# EAGLE library part HC-05 (library EYR_Modulos)
Bluetooth HC Module
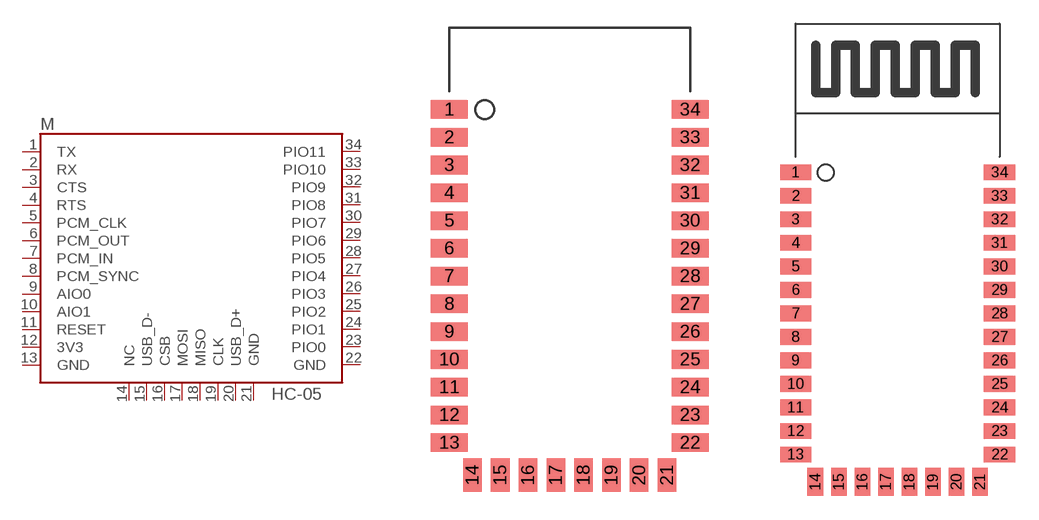
[diagram p2: symbol with the pads of BLUETOOTH_SMDA; footprints BLUETOOTH_SMDA, BLUETOOTH_SMD]

Designator prefix M

## HC-05_NANT  [BLUETOOTH_SMDA]
1  TX
2  RX
3  CTS
4  RTS
5  PCM_CLK
6  PCM_OUT
7  PCM_IN
8  PCM_SYNC
9  AIO0
10  AIO1
11  RESET
12  3V3
13  GND
14  NC
15  USB_D-
16  CSB
17  MOSI
18  MISO
19  CLK
20  USB_D+
21  GND
22  GND
23  PIO0
24  PIO1
25  PIO2
26  PIO3
27  PIO4
28  PIO5
29  PIO6
30  PIO7
31  PIO8
32  PIO9
33  PIO10
34  PIO11

## HC-05_ANT  [BLUETOOTH_SMD]
Pads as for BLUETOOTH_SMDA

## Footprint BLUETOOTH_SMDA (pad centres in mm)
SMD Bluetooth without antenna
smd 2 x 1: 1 -6.35,7.62; 2 -6.35,6.12; 3 -6.35,4.62; 4 -6.35,3.12; 5 -6.35,1.62; 6 -6.35,0.12; 7 -6.35,-1.38; 8 -6.35,-2.88; 9 -6.35,-4.38; 10 -6.35,-5.88; 11 -6.35,-7.38; 12 -6.35,-8.88; 13 -6.35,-10.38; 22 6.65,-10.38; 23 6.65,-8.88; 24 6.65,-7.38; 25 6.65,-5.88; 26 6.65,-4.38; 27 6.65,-2.88; 28 6.65,-1.38; 29 6.65,0.12; 30 6.65,1.62; 31 6.65,3.12; 32 6.65,4.62; 33 6.65,6.12; 34 6.65,7.62
smd 1 x 1.8: 14 -5.1,-12.13; 15 -3.6,-12.13; 16 -2.1,-12.13; 17 -0.6,-12.13; 18 0.9,-12.13; 19 2.4,-12.13; 20 3.9,-12.13; 21 5.4,-12.13

## Footprint BLUETOOTH_SMD (pad centres in mm)
SMD Bluetooth
smd 2 x 1: 1 -6.35,7.62; 2 -6.35,6.12; 3 -6.35,4.62; 4 -6.35,3.12; 5 -6.35,1.62; 6 -6.35,0.12; 7 -6.35,-1.38; 8 -6.35,-2.88; 9 -6.35,-4.38; 10 -6.35,-5.88; 11 -6.35,-7.38; 12 -6.35,-8.88; 13 -6.35,-10.38; 22 6.65,-10.38; 23 6.65,-8.88; 24 6.65,-7.38; 25 6.65,-5.88; 26 6.65,-4.38; 27 6.65,-2.88; 28 6.65,-1.38; 29 6.65,0.12; 30 6.65,1.62; 31 6.65,3.12; 32 6.65,4.62; 33 6.65,6.12; 34 6.65,7.62
smd 1 x 1.8: 14 -5.1,-12.13; 15 -3.6,-12.13; 16 -2.1,-12.13; 17 -0.6,-12.13; 18 0.9,-12.13; 19 2.4,-12.13; 20 3.9,-12.13; 21 5.4,-12.13